# EAGLE library part LTC3872 (library AS-2-Extras)
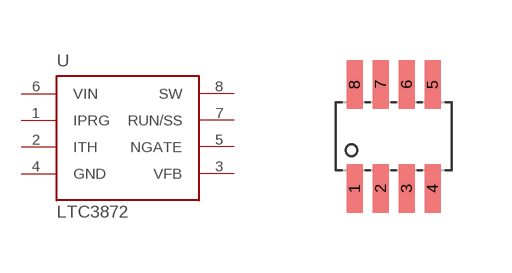
[diagram p8: symbol with the pads of TSOT-8; footprint TSOT-8]

Designator prefix -

## LTC3872  [TSOT-8]
1  IPRG
2  ITH
3  VFB
4  GND
5  NGATE
6  VIN
7  RUN/SS
8  SW

## Footprint TSOT-8 (pad centres in mm)
smd 0.4 x 1.22: 1 -0.975,-1.3; 2 -0.325,-1.3; 3 0.325,-1.3; 4 0.975,-1.3; 5 0.975,1.3; 6 0.325,1.3; 7 -0.325,1.3; 8 -0.975,1.3